# Altium footprint library 750314178.PcbLib: 1 footprints
Each footprint in its own frame and in the unit in brackets; x right, y up, seen from the top. Pads: shape width x height; smd on the part's side, far side on the other; paste and mask are expansions set on the pad; w line width, h text height; cw(c..) or ccw(c..) is an arc to the next point about the centre after c.
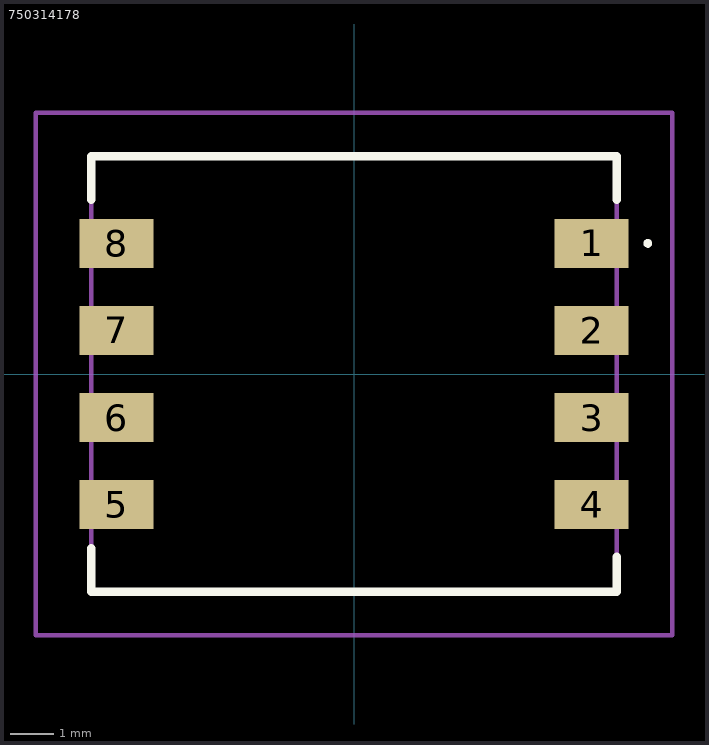
[diagram p0: the footprint, top view; thin cyan lines are the x and y axes]

## 750314178 [mm]
pads (8):
  rect 1.7x1.12 smd: 1(5.46,3) 2(5.46,1) 3(5.46,-1) 4(5.46,-3) 5(-5.46,-3) 6(-5.46,-1) 7(-5.46,1) 8(-5.46,3)
Top Overlay:
  lines w0.1: 6.7,3 6.7,3 ; 6.7,3 ccw(c6.75,3) 6.8,3 ; 6.7,3 cw(c6.75,3) 6.8,3 ; 6.8,3 6.8,3
  lines w0.2: -6.035,-4 -6.035,-5 6.035,-5 6.035,-4.2 ; -6.035,4 -6.035,5 6.035,5 6.035,4
Mechanical 15:
  lines w0.1: -6.035,-5 6.035,-5 6.035,5 -6.035,5 -6.035,-5
Mechanical 20:
  lines w0.1: -7.31,-6 7.31,-6 7.31,6 -7.31,6 -7.31,-6
3D body "750314178.stp": height 5.8, standoff -4.65, extent -10,-3.376 10,3.376